# Altium footprint library LED.PCBLIB: 78 footprints (part 4 of 5)
Each footprint in its own frame and in the unit in brackets; x right, y up, seen from the top. Pads: shape width x height; smd on the part's side, far side on the other; paste and mask are expansions set on the pad; w line width, h text height; cw(c..) or ccw(c..) is an arc to the next point about the centre after c.
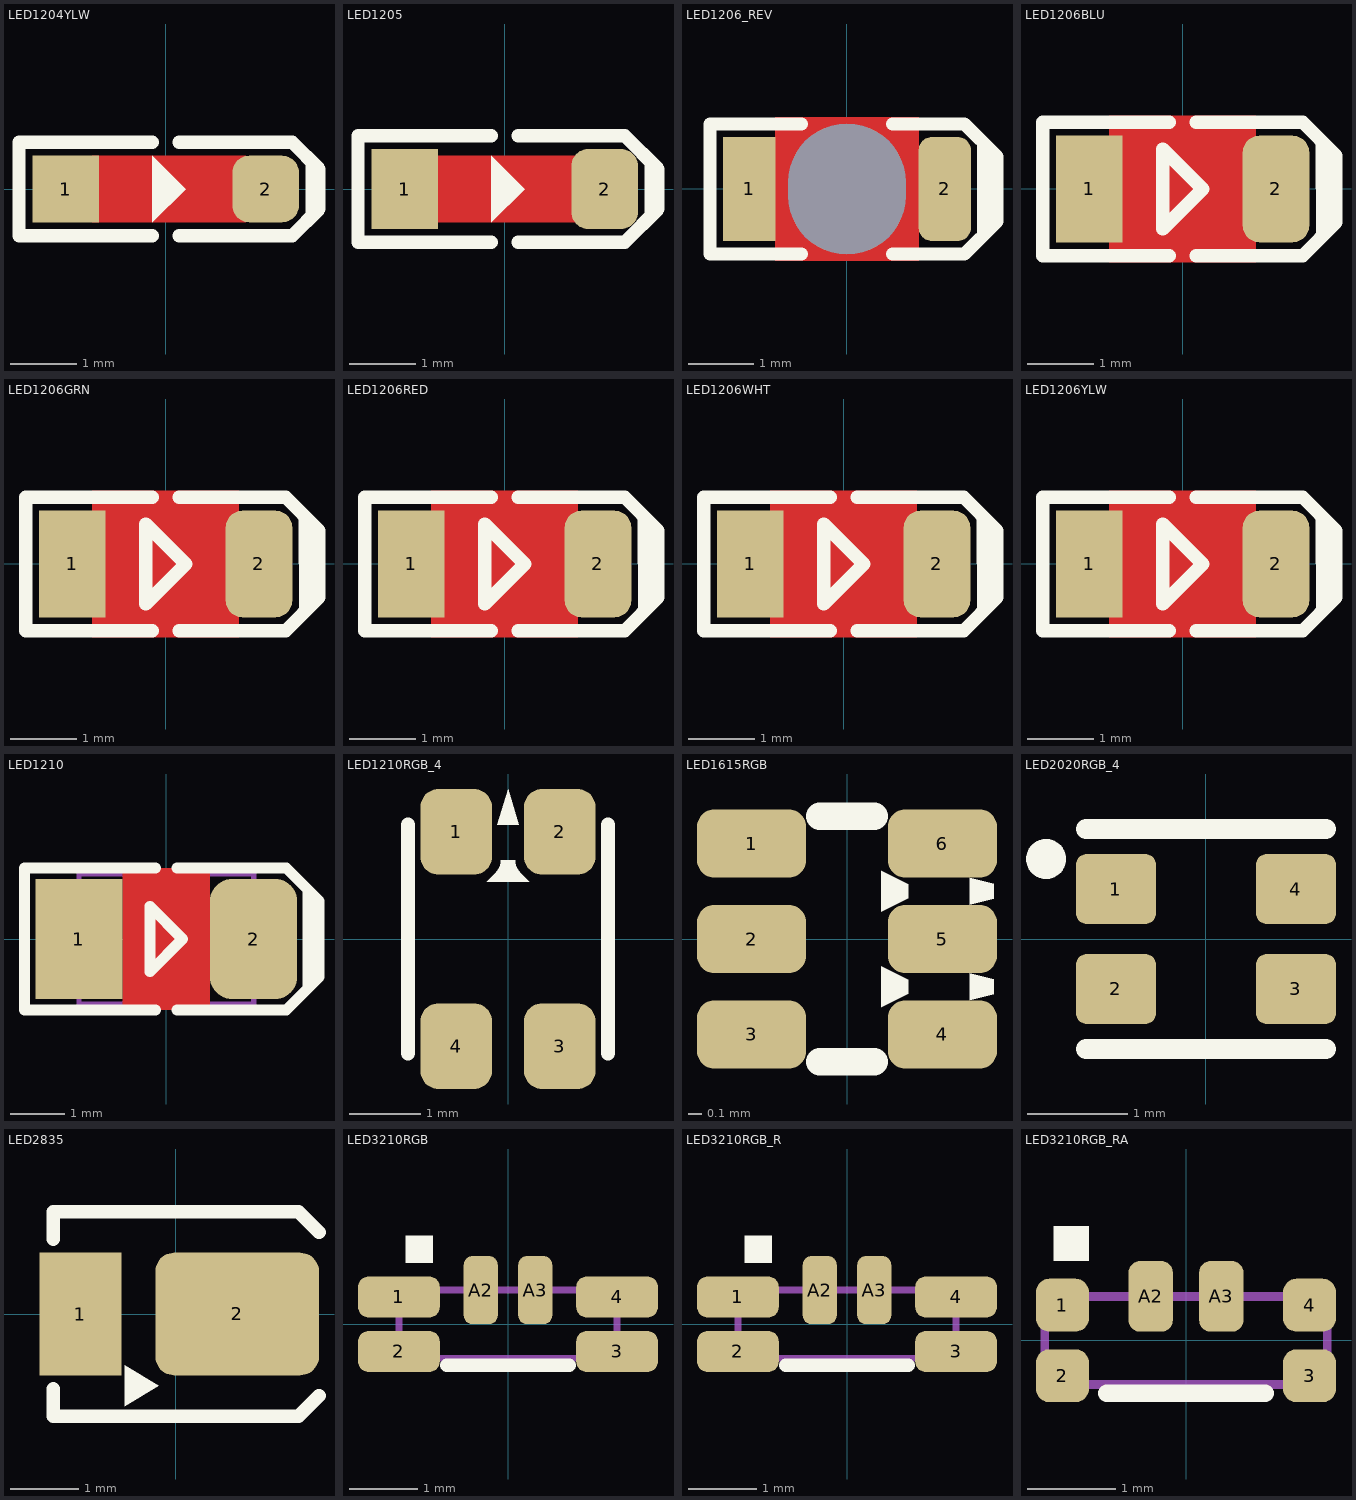
[diagram p3: the footprints below, top view; thin cyan lines are the x and y axes]

## LED1204YLW [mm] "LED, 1204, YELLOW, 3.0X1.0X1.9mm"
pads (2):
  rect 1x1 smd mask+0.075: 1(-1.5,0)
  rrect50% 1x1 smd mask+0.075: 2(1.5,0)
TopLayer:
  pour cut-out: -1.1,0.5 -1.1,-0.5 1.2,-0.5 1.2,0.5
TopOverlay:
  region: 2.1,0.6 2.1,-0.6 2.3,-0.4 2.3,0.4
  region: -0.2,0.5 0.3,0 -0.2,-0.5
  lines w0.2: -0.2,-0.7 -2.2,-0.7 -2.2,0.7 -0.2,0.7 ; 0.2,-0.7 1.9,-0.7 2.3,-0.3 2.3,0.3 1.9,0.7 0.2,0.7
3D body: height 1.9, standoff 0.9, extent -1,-0.5 1,0.5
3D body: height 0.9, standoff 0, extent -1.1,-0.5 1.1,0.5
3D body: height 0.9, standoff 0, extent -1.5,-0.5 -1.1,0.5
3D body: height 0.9, standoff 0, extent 1.1,-0.5 1.5,0.5

## LED1205 [mm] "LED, 1205, YELLOW, 3.2X1.2X1.1mm"
height 1.1
pads (2):
  rect 1x1.2 smd mask+0.075: 1(-1.5,0)
  rrect50% 1x1.2 smd mask+0.075: 2(1.5,0)
TopLayer:
  pour cut-out: -1.1,0.5 -1.1,-0.5 1.2,-0.5 1.2,0.5
TopOverlay:
  region: 2.1,0.6 2.1,-0.6 2.3,-0.4 2.3,0.4
  region: -0.2,0.5 0.3,0 -0.2,-0.5
  lines w0.2: -0.2,-0.8 -2.2,-0.8 -2.2,0.8 -0.2,0.8 ; 0.2,-0.8 1.8,-0.8 2.3,-0.3 2.3,0.3 1.8,0.8 0.2,0.8
3D body "WL-SMRD-1205 (rev1).stp": height 1.1, standoff 0, extent -1.6,-0.6 1.6,0.6

## LED1206_REV [mm] "LED, 1206, Rerverse Mount"
pads (3):
  rect 0.8x1.6 smd paste-0.15 mask+0.075: 1(-1.5,0)
  rrect50% 0.8x1.6 smd paste-0.15 mask+0.075: 2(1.5,0)
  oval 1.8x2 hole 1.8 slot 2 at 90 deg unplated: ""(0,0)
TopLayer:
  pour cut-out: -1.1,1.1 -1.1,-1.1 1.1,-1.1 1.1,1.1
TopOverlay:
  region: 2,0.7 2,-0.7 2.3,-0.4 2.3,0.4
  lines w0.2: -0.7,-1 -2.1,-1 -2.1,1 -0.7,1 ; 0.7,-1 1.8,-1 2.3,-0.5 2.3,0.5 1.8,1 0.7,1 ; -0.3,-0.6 -0.3,0.6 0.3,0 -0.3,-0.6
3D body "APTL3216.STEP": height 0.28, standoff -0.82, extent -1.6,-0.8 1.6,0.8

## LED1206BLU [mm] "LED, 1206, BLUE"
pads (2):
  rect 1x1.6 smd paste-0.2 mask+0.075: 1(-1.4,0)
  rrect50% 1x1.6 smd paste-0.2 mask+0.075: 2(1.4,0)
TopLayer:
  pour cut-out: -1.1,1.1 -1.1,-1.1 1.1,-1.1 1.1,1.1
TopOverlay:
  region: 2,0.7 2,-0.7 2.3,-0.4 2.3,0.4
  lines w0.2: -0.2,-1 -2.1,-1 -2.1,1 -0.2,1 ; 0.2,-1 1.8,-1 2.3,-0.5 2.3,0.5 1.8,1 0.2,1 ; -0.3,-0.6 -0.3,0.6 0.3,0 -0.3,-0.6
3D body "User Library-Wurth Elektronik WL-SMCW 1206 (3216) LED Base (Separate Lens).step": height 0.62, standoff 0, extent -1.6,-0.8 1.6,0.8
3D body "User Library-Wurth Elektronik WL-SMCW 1206 (3216) LED Lens (Separate Body).step": height 0.68, standoff 0.28, extent -1,-0.8 1,0.8

## LED1206GRN [mm] "LED, 1206, GREEN"
pads (2):
  rect 1x1.6 smd paste-0.2 mask+0.075: 1(-1.4,0)
  rrect50% 1x1.6 smd paste-0.2 mask+0.075: 2(1.4,0)
TopLayer:
  pour cut-out: -1.1,1.1 -1.1,-1.1 1.1,-1.1 1.1,1.1
TopOverlay:
  region: 2,0.7 2,-0.7 2.3,-0.4 2.3,0.4
  lines w0.2: -0.2,-1 -2.1,-1 -2.1,1 -0.2,1 ; 0.2,-1 1.8,-1 2.3,-0.5 2.3,0.5 1.8,1 0.2,1 ; -0.3,-0.6 -0.3,0.6 0.3,0 -0.3,-0.6
3D body "User Library-Wurth Elektronik WL-SMCW 1206 (3216) LED Base (Separate Lens).step": height 0.62, standoff 0, extent -1.6,-0.8 1.6,0.8
3D body "User Library-Wurth Elektronik WL-SMCW 1206 (3216) LED Lens (Separate Body).step": height 0.68, standoff 0.28, extent -1,-0.8 1,0.8

## LED1206RED [mm] "LED, 1206, RED"
pads (2):
  rect 1x1.6 smd paste-0.2 mask+0.075: 1(-1.4,0)
  rrect50% 1x1.6 smd paste-0.2 mask+0.075: 2(1.4,0)
TopLayer:
  pour cut-out: -1.1,1.1 -1.1,-1.1 1.1,-1.1 1.1,1.1
TopOverlay:
  region: 2,0.7 2,-0.7 2.3,-0.4 2.3,0.4
  lines w0.2: -0.2,-1 -2.1,-1 -2.1,1 -0.2,1 ; 0.2,-1 1.8,-1 2.3,-0.5 2.3,0.5 1.8,1 0.2,1 ; -0.3,-0.6 0.3,0 -0.3,0.6 -0.3,-0.6
3D body "User Library-Wurth Elektronik WL-SMCW 1206 (3216) LED Lens (Separate Body).step": height 0.68, standoff 0.28, extent -1,-0.8 1,0.8
3D body "User Library-Wurth Elektronik WL-SMCW 1206 (3216) LED Base (Separate Lens).step": height 0.62, standoff 0, extent -1.6,-0.8 1.6,0.8

## LED1206WHT [mm] "LED, 1206, WHITE"
pads (2):
  rect 1x1.6 smd paste-0.2 mask+0.075: 1(-1.4,0)
  rrect50% 1x1.6 smd paste-0.2 mask+0.075: 2(1.4,0)
TopLayer:
  pour cut-out: -1.1,1.1 -1.1,-1.1 1.1,-1.1 1.1,1.1
TopOverlay:
  region: 2,0.7 2,-0.7 2.3,-0.4 2.3,0.4
  lines w0.2: -0.2,-1 -2.1,-1 -2.1,1 -0.2,1 ; 0.2,-1 1.8,-1 2.3,-0.5 2.3,0.5 1.8,1 0.2,1 ; -0.3,-0.6 -0.3,0.6 0.3,0 -0.3,-0.6
3D body "User Library-Wurth Elektronik WL-SMCW 1206 (3216) LED Base (Separate Lens).step": height 0.62, standoff 0, extent -1.6,-0.8 1.6,0.8
3D body "User Library-Wurth Elektronik WL-SMCW 1206 (3216) LED Lens (Separate Body).step": height 0.68, standoff 0.28, extent -1,-0.8 1,0.8

## LED1206YLW [mm] "LED, 1206, YELLOW"
pads (2):
  rect 1x1.6 smd paste-0.2 mask+0.075: 1(-1.4,0)
  rrect50% 1x1.6 smd paste-0.2 mask+0.075: 2(1.4,0)
TopLayer:
  pour cut-out: -1.1,1.1 -1.1,-1.1 1.1,-1.1 1.1,1.1
TopOverlay:
  region: 2,0.7 2,-0.7 2.3,-0.4 2.3,0.4
  lines w0.2: -0.2,-1 -2.1,-1 -2.1,1 -0.2,1 ; 0.2,-1 1.8,-1 2.3,-0.5 2.3,0.5 1.8,1 0.2,1 ; -0.3,-0.6 0.3,0 -0.3,0.6 -0.3,-0.6
3D body "User Library-Wurth Elektronik WL-SMCW 1206 (3216) LED Lens (Separate Body).step": height 0.68, standoff 0.28, extent -1,-0.8 1,0.8
3D body "User Library-Wurth Elektronik WL-SMCW 1206 (3216) LED Base (Separate Lens).step": height 0.62, standoff 0, extent -1.6,-0.8 1.6,0.8

## LED1210 [mm] "LED, 1210, 3.2X2.5mm"
pads (2):
  rect 1.6x2.2 smd paste-0.2 mask+0.075: 1(-1.6,0)
  rrect50% 1.6x2.2 smd paste-0.2 mask+0.075: 2(1.6,0)
TopLayer:
  pour cut-out: -0.8,1.3 -0.8,-1.3 0.8,-1.3 0.8,1.3
TopOverlay:
  region: 2.5,1 2.5,-1 2.8,-0.7 2.8,0.7
  lines w0.2: -0.2,-1.3 -2.6,-1.3 -2.6,1.3 -0.2,1.3 ; 0.2,-1.3 2.2,-1.3 2.8,-0.7 2.8,0.7 2.2,1.3 0.2,1.3 ; -0.3,-0.6 0.3,0 -0.3,0.6 -0.3,-0.6
Mechanical13:
  lines w0.1: -1.6,-1.2 -1.6,1.2 1.6,1.2 1.6,-1.2 -1.6,-1.2
3D body "User Library-led_1210.step": height 1.1, standoff -0.05, extent -1.62,-1.35 1.62,1.35

## LED1210RGB_4 [mm] "3.2x2.7X0.8mm  RGB LED"
height 0.8
pads (4):
  rrect50% 1x1.2 smd mask+0.05: 1(-0.725,1.5) 2(0.725,1.5) 3(0.725,-1.5) 4(-0.725,-1.5)
TopOverlay:
  region: 0.1,1.1 -0.1,1.1 -0.101,1.076 -0.11,1.03 -0.129,0.986 -0.155,0.947 -0.171,0.929 -0.3,0.8 0.3,0.8 0.171,0.929 0.155,0.947 0.129,0.986 0.11,1.03 0.101,1.076
  region: -0.15,1.6 0.15,1.6 0,2.1
  lines w0.2: -1.4,-1.6 -1.4,1.6 ; 1.4,-1.6 1.4,1.6
3D body "LED1210RGB-APS3227.step": height 1.12, standoff 0.03, extent -1.35,-1.6 1.35,1.6

## LED1615RGB [mm] "1.6x1.5mm  RGB LED E6C1615RGB"
height 0.6
pads (6):
  rrect50% 0.8x0.5 smd paste-0.05 mask+0.05: 1(-0.7,0.7) 2(-0.7,0) 3(-0.7,-0.7) 4(0.7,-0.7) 5(0.7,0) 6(0.7,0.7)
TopOverlay:
  region: 0.9,-0.45 0.9,-0.25 1.075,-0.294 1.075,-0.406
  region: 0.9,0.45 0.9,0.25 1.075,0.294 1.075,0.406
  region: 0.25,0.5 0.25,0.2 0.45,0.3 0.45,0.4
  region: 0.25,-0.5 0.25,-0.2 0.45,-0.3 0.45,-0.4
  lines w0.2: -0.2,-0.9 0.2,-0.9 ; -0.2,0.9 0.2,0.9
3D body: height 0.45, standoff 0.15, extent -0.55,-0.75 0.55,0.75
3D body: height 0.05, standoff 0, extent 0.4,0.45 0.8,0.8
3D body: height 0.05, standoff 0, extent 0.4,-0.8 0.8,-0.45
3D body: height 0.05, standoff 0, extent -0.8,-0.8 -0.4,-0.45
3D body: height 0.05, standoff 0, extent -0.8,0.45 -0.4,0.8
3D body: height 0.05, standoff 0, extent -0.8,-0.25 -0.4,0.25
3D body: height 0.3, standoff 0.05, extent -0.8,-0.8 0.8,0.8
3D body: height 0.05, standoff 0, extent 0.4,-0.25 0.8,0.25
3D body: height 0.4, standoff 0.3, extent 0.15,-0.1 0.35,0.1
3D body: height 0.4, standoff 0.3, extent -0.2,0.25 0,0.45
3D body: height 0.4, standoff 0.3, extent -0.2,-0.45 0,-0.25
3D body: height 0.35, standoff 0.3, extent 0.6,0.264 0.775,0.436
3D body: height 0.35, standoff 0.3, extent 0.6,-0.436 0.775,-0.264

## LED2020RGB_4 [mm] "LED 2x2mm, WS2812B-2020"
height 0.84
pads (4):
  rrect30% 0.8x0.7 smd paste-0.05 mask+0.075: 1(-0.9,0.5) 2(-0.9,-0.5) 3(0.9,-0.5) 4(0.9,0.5)
TopOverlay:
  circle w0.2: c-1.6,0.8 r0.1
  lines w0.2: -1.2,-1.1 1.2,-1.1 ; -1.2,1.1 1.2,1.1
3D body "step_temp.STEP": height 0.84, standoff 0, extent -1.1,-1 1.1,1

## LED2835 [mm] "LED 2.8mmX3.5mm"
pads (2):
  rect 1.2x1.8 smd paste-0.117 mask+0.1: 1(-1.4,0)
  rrect30% 2.4x1.8 smd paste-0.168 mask+0.1: 2(0.9,0)
TopOverlay:
  region: -0.75,-0.75 -0.25,-1.05 -0.75,-1.35
  lines w0.2: -1.8,-1.1 -1.8,-1.5 1.8,-1.5 2.1,-1.2 ; -1.8,1.1 -1.8,1.5 1.8,1.5 2.1,1.2
3D body "User Library-LED 2835.step": height 0.72, standoff 0, extent -1.756,-1.4 1.756,1.4

## LED3210RGB [mm] "LED RGB 3.2mmX1.0mm"
height 2.8
pads (6):
  rrect50% 1.2x0.6 smd paste-0.065 mask+0.05: 1(-1.6,0.4) 2(-1.6,-0.4) 3(1.6,-0.4) 4(1.6,0.4)
  rrect50% 0.5x1 smd paste-0.054 mask+0.05: A2(-0.4,0.5) A3(0.4,0.5)
TopOverlay:
  rectangle: -1.5,0.9 -1.1,1.3
  lines w0.2: -0.9,-0.6 0.9,-0.6
Mechanical13:
  lines w0.1: -1.6,-0.5 1.6,-0.5 1.6,0.5 -1.6,0.5 -1.6,-0.5
3D body "LED3210.step": height 1.5, standoff -0.01, extent -1.6,-0.5 1.6,0.5

## LED3210RGB_R [mm] "LED RGB 3.2mmX1.0mm, Right Angle"
height 2.8
pads (6):
  rrect50% 1.2x0.6 smd paste-0.065 mask+0.05: 1(-1.6,0.4) 2(-1.6,-0.4) 3(1.6,-0.4) 4(1.6,0.4)
  rrect50% 0.5x1 smd paste-0.054 mask+0.05: A2(-0.4,0.5) A3(0.4,0.5)
TopOverlay:
  rectangle: -1.5,0.9 -1.1,1.3
  lines w0.2: -0.9,-0.6 0.9,-0.6
Mechanical13:
  lines w0.1: -1.6,-0.5 1.6,-0.5 1.6,0.5 -1.6,0.5 -1.6,-0.5
3D body "LED3210.step": height 1, standoff 0, extent -1.6,0.39 1.6,1.9

## LED3210RGB_RA [mm] "LED RGB 3.2mmX1.0mm"
height 2.8
pads (6):
  rrect50% 0.6x0.6 smd paste-0.049 mask+0.05: 1(-1.4,0.4) 2(-1.4,-0.4) 3(1.4,-0.4) 4(1.4,0.4)
  rrect50% 0.5x0.8 smd paste-0.05 mask+0.05: A2(-0.4,0.5) A3(0.4,0.5)
TopOverlay:
  rectangle: -1.5,0.9 -1.1,1.3
  lines w0.2: -0.9,-0.6 0.9,-0.6
Mechanical1:
  lines w0.1: -1.6,-0.5 -1.6,0.5 1.6,0.5 1.6,-0.5 -1.6,-0.5
3D body "LED3210.step": height 1, standoff 0, extent -1.6,0.39 1.6,1.9